# Altium integrated library FPGA Peripherals (Wishbone).IntLib: 47 symbols (part 2 of 2)

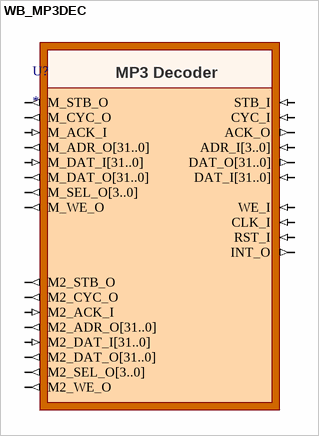
[diagram p23: symbol WB_MP3DEC]

## WB_MP3DEC
designator U?
MP3 Decoder; ChildModel1: init_file_0.hex; UseInDSF: True; ChildModel2: init_file_1.hex; ChildModel3: init_file_2.hex; ChildModel4: init_file_3.hex; ChildModel5: init_file_4.hex; ChildModel6: init_file_5.hex; ChildModel7: init_file_6.hex; ChildModel8: init_file_7.hex; ChildModel9: init_file_8.hex; ChildModel10: init_file_9.hex; ChildModel11: init_file_10.hex; ChildModel12: init_file_11.hex; ChildModel13: init_file_12.hex; ChildModel14: init_file_13.hex; ChildModel15: init_file_14.hex; ChildModel16: init_file_15.hex; ChildModel17: init_file_16.hex; ChildModel18: init_file_17.hex; ChildModel19: init_file_18.hex; ChildModel20: init_file_19.hex; ChildModel21: init_file_20.hex; ChildModel22: init_file_21.hex; ChildModel23: init_file_22.hex; ChildModel25: init_file_24.hex; ChildModel24: init_file_23.hex; ChildModel26: init_file_25.hex; ChildModel27: init_file_26.hex; ChildModel28: init_file_27.hex; ChildModel29: init_file_28.hex; ChildModel30: init_file_29.hex; ChildModel31: init_file_30.hex; ChildModel32: init_file_31.hex; ChildModel33: init_file_32.hex; ChildModel34: init_file_33.hex; ConfiguratorName: WB_MP3DEC; Published: 23-Feb-2010; Publisher: Altium Limited; HelpURL: http://wiki.altium.com/
pins: ACK_O (out), ADR_I[3..0] (in), CLK_I (in), CYC_I (in), DAT_I[31..0] (in), DAT_O[31..0] (out), INT_O (out), M2_ACK_I (in), M2_ADR_O[31..0] (out), M2_CYC_O (out), M2_DAT_I[31..0] (in), M2_DAT_O[31..0] (out), M2_SEL_O[3..0] (out), M2_STB_O (out), M2_WE_O (out), M_ACK_I (in), M_ADR_O[31..0] (out), M_CYC_O (out), M_DAT_I[31..0] (in), M_DAT_O[31..0] (out), M_SEL_O[3..0] (out), M_STB_O (out), M_WE_O (out), RST_I (in), STB_I (in), WE_I (in)


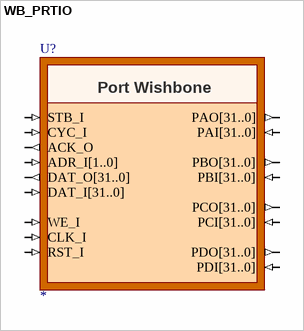
[diagram p24: symbol WB_PRTIO]

## WB_PRTIO
designator U?
Configurable Port Wishbone; ChildModel: PRTIO4X32_W; ConfiguratorName: WB_PRTIO; UseInDSF: True; ComponentLink1Description: Core &Resource Usage; ComponentLink1URL: CR0139 FPGA Peripheral Resource Usage.pdf#page=98; HelpURL: https://wiki.altium.com/display/ADOH/WB_PRTIO+-+Configurable+Wishbone+Parallel+Port+Unit; LastRevisionNo: 1.00.00; Published: 9-Dec-2004; Publisher: Altium Limited
pins: ACK_O (out), ADR_I[1..0] (in), CLK_I (in), CYC_I (in), DAT_I[31..0] (in), DAT_O[31..0] (out), PAI[31..0] (in), PAO[31..0] (out), PBI[31..0] (in), PBO[31..0] (out), PCI[31..0] (in), PCO[31..0] (out), PDI[31..0] (in), PDO[31..0] (out), RST_I (in), STB_I (in), WE_I (in)
text: Port Wishbone


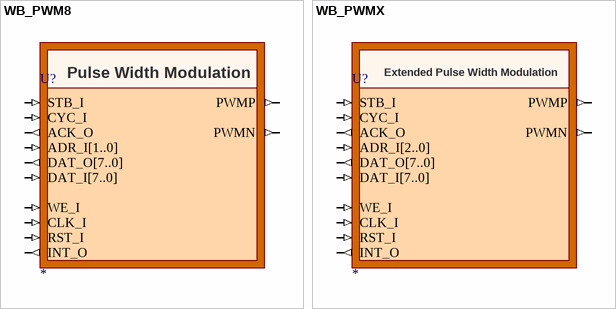
[diagram p25: symbols WB_PWM8 to WB_PWMX]

## WB_PWM8
designator U?
Pulse Width Modulation Controller Wishbone; UseInDSF: True; ComponentLink1Description: Core &Resource Usage; ComponentLink1URL: CR0139 FPGA Peripheral Resource Usage.pdf#page=116; HelpURL: https://wiki.altium.com/display/ADOH/WB_PWM8+-+Wishbone+Standard+Pulse+Width+Modulation+Controller; LastRevisionNo: 1.00.00; Published: 9-Mar-2005; Publisher: Altium Limited
pins: ACK_O (out), ADR_I[1..0] (in), CLK_I (in), CYC_I (in), DAT_I[7..0] (in), DAT_O[7..0] (out), INT_O (out), PWMN (out), PWMP (out), RST_I (in), STB_I (in), WE_I (in)
text: Pulse Width Modulation

## WB_PWMX
designator U?
Extended  Pulse Width Modulation Controller Wishbone; UseInDSF: True; ComponentLink1Description: Core &Resource Usage; ComponentLink1URL: CR0139 FPGA Peripheral Resource Usage.pdf#page=117; HelpURL: https://wiki.altium.com/display/ADOH/WB_PWMX+-+Wishbone+Extended+Pulse+Width+Modulation+Controller; LastRevisionNo: 1.00.00; Published: 6-Jun-2005; Publisher: Altium Limited
pins: ACK_O (out), ADR_I[2..0] (in), CLK_I (in), CYC_I (in), DAT_I[7..0] (in), DAT_O[7..0] (out), INT_O (out), PWMN (out), PWMP (out), RST_I (in), STB_I (in), WE_I (in)
text: Extended Pulse Width Modulation


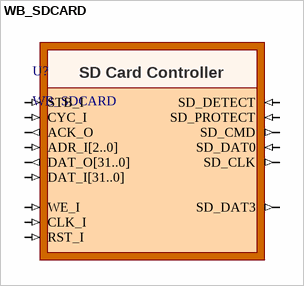
[diagram p26: symbol WB_SDCARD]

## WB_SDCARD
designator U?
Wishbone SD Card Controller; ChildModel: WB_SPI32; ComponentLink1Description: Core &Resource Usage; ComponentLink1URL: CR0139 FPGA Peripheral Resource Usage.pdf; LastRevisionNo: 1.00.00; Published: 20-Nov-2008; Publisher: Altium Limited; HelpURL: https://wiki.altium.com/display/ADOH/WB_SDCARD+-+Wishbone+SD+Card+Controller
pins: ACK_O (out), ADR_I[2..0] (in), CLK_I (in), CYC_I (in), DAT_I[31..0] (in), DAT_O[31..0] (out), RST_I (in), SD_CLK (out), SD_CMD (out), SD_DAT0 (in), SD_DAT3 (out), SD_DETECT (in), SD_PROTECT (in), STB_I (in), WE_I (in)
text: SD Card Controller


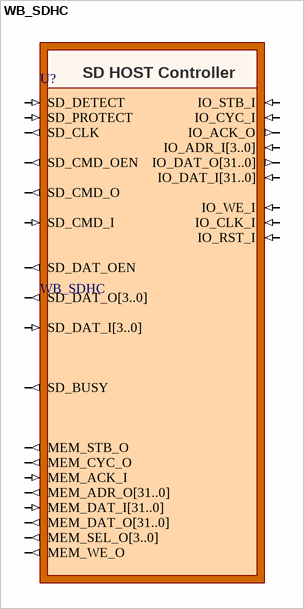
[diagram p27: symbol WB_SDHC]

## WB_SDHC
designator U?
SD Host Controller Wishbone; UseInDSF: True; Published: 1-Nov-2009; Publisher: Altium Limited; ComponentLink1Description: Core &Resource Usage; HelpURL: https://wiki.altium.com/display/ADOH/; LastRevisionNo: 1.00.00
pins: IO_ACK_O (out), IO_ADR_I[3..0] (in), IO_CLK_I (in), IO_CYC_I (in), IO_DAT_I[31..0] (in), IO_DAT_O[31..0] (out), IO_RST_I (in), IO_STB_I (in), IO_WE_I (in), MEM_ACK_I (in), MEM_ADR_O[31..0] (out), MEM_CYC_O (out), MEM_DAT_I[31..0] (in), MEM_DAT_O[31..0] (out), MEM_SEL_O[3..0] (out), MEM_STB_O (out), MEM_WE_O (out), SD_BUSY (out), SD_CLK (out), SD_CMD_I (in), SD_CMD_O (out), SD_CMD_OEN (out), SD_DAT_I[3..0] (in), SD_DAT_O[3..0] (out), SD_DAT_OEN (out), SD_DETECT (in), SD_PROTECT (in)
text: SD HOST Controller


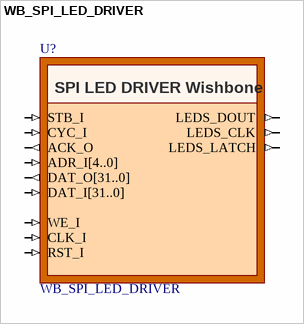
[diagram p28: symbol WB_SPI_LED_DRIVER]

## WB_SPI_LED_DRIVER
designator U?
Configurable SPI LED DRIVER Wishbone; ConfigurationParameters: {}Version[1.0]{}NumLEDs[8]{}Bus[True]{}IsRGB[True]{}; ComponentLink1Description: Core &Resource Usage; LastRevisionNo: 1.00.00; Published: 26-Sep-2012; Publisher: Altium Limited; ConfiguratorName: WB_SPI_LED_DRIVER
pins: ACK_O (out), ADR_I[4..0] (in), CLK_I (in), CYC_I (in), DAT_I[31..0] (in), DAT_O[31..0] (out), LEDS_CLK (out), LEDS_DOUT (out), LEDS_LATCH (out), RST_I (in), STB_I (in), WE_I (in)
text: SPI LED DRIVER Wishbone


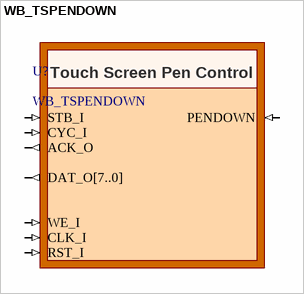
[diagram p29: symbol WB_TSPENDOWN]

## WB_TSPENDOWN
designator U?
Touch Screen Pen Control; Published: 5-Nov-2008; Publisher: Altium Limited; LastRevisionNo: 1.00.00; HelpURL: https://wiki.altium.com/display/ADOH/WB_TSPENDOWN+-+Wishbone+Touch+Screen+Pen+Controller
pins: ACK_O (out), CLK_I (in), CYC_I (in), DAT_O[7..0] (out), PENDOWN (in), RST_I (in), STB_I (in), WE_I (in)


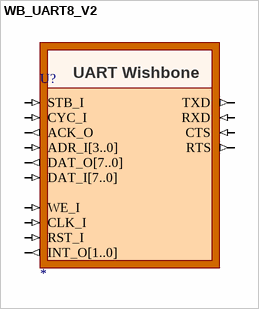
[diagram p30: symbol WB_UART8_V2]

## WB_UART8_V2
designator U?
UART Buffered with handshake, Wishbone; UseInDSF: True; LastRevisionNo: 1.00.00; Published: 6-Jun-2005; Publisher: Altium Limited; ComponentLink1Description: Core &Resource Usage; ComponentLink1URL: CR0139 FPGA Peripheral Resource Usage.pdf#page=118; HelpURL: https://wiki.altium.com/display/ADOH/WB_UART8_V2+-+Wishbone+Serial+Communications+Port+%28Version+2%29
pins: ACK_O (out), ADR_I[3..0] (in), CLK_I (in), CTS (in), CYC_I (in), DAT_I[7..0] (in), DAT_O[7..0] (out), INT_O[1..0] (out), RST_I (in), RTS (out), RXD (in), STB_I (in), TXD (out), WE_I (in)
text: UART Wishbone


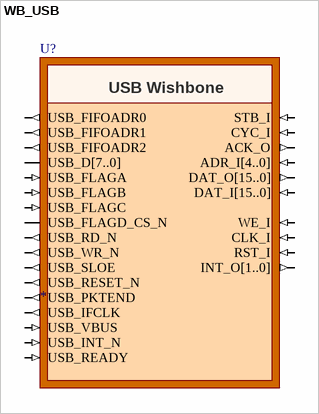
[diagram p31: symbol WB_USB]

## WB_USB
designator U?
Configurable USB Controller Interface; ConfiguratorName: WB_USB; UseInDSF: True; LastRevisionNo: 1.00.00; Published: 12-Jul-2007; Publisher: Altium Limited; ComponentLink1Description: Core &Resource Usage; ComponentLink1URL: CR0139 FPGA Peripheral Resource Usage.pdf; HelpURL: https://wiki.altium.com/display/ADOH/WB_USB+-+Configurable+Wishbone+Universal+Serial+Bus+Interface+Controller
pins: ACK_O (out), ADR_I[4..0] (in), CLK_I (in), CYC_I (in), DAT_I[15..0] (in), DAT_O[15..0] (out), INT_O[1..0] (out), RST_I (in), STB_I (in), USB_D[7..0] (io), USB_FIFOADR0 (out), USB_FIFOADR1 (out), USB_FIFOADR2 (out), USB_FLAGA (in), USB_FLAGB (in), USB_FLAGC (in), USB_FLAGD_CS_N (io), USB_IFCLK (out), USB_INT_N (in), USB_PKTEND (out), USB_RD_N (out), USB_READY (in), USB_RESET_N (out), USB_SLOE (out), USB_VBUS (in), USB_WR_N (out), WE_I (in)
text: USB Wishbone